# Altium footprint library 0878321220.PcbLib: 1 footprints
Each footprint in its own frame and in the unit in brackets; x right, y up, seen from the top. Pads: shape width x height; smd on the part's side, far side on the other; paste and mask are expansions set on the pad; w line width, h text height; cw(c..) or ccw(c..) is an arc to the next point about the centre after c.
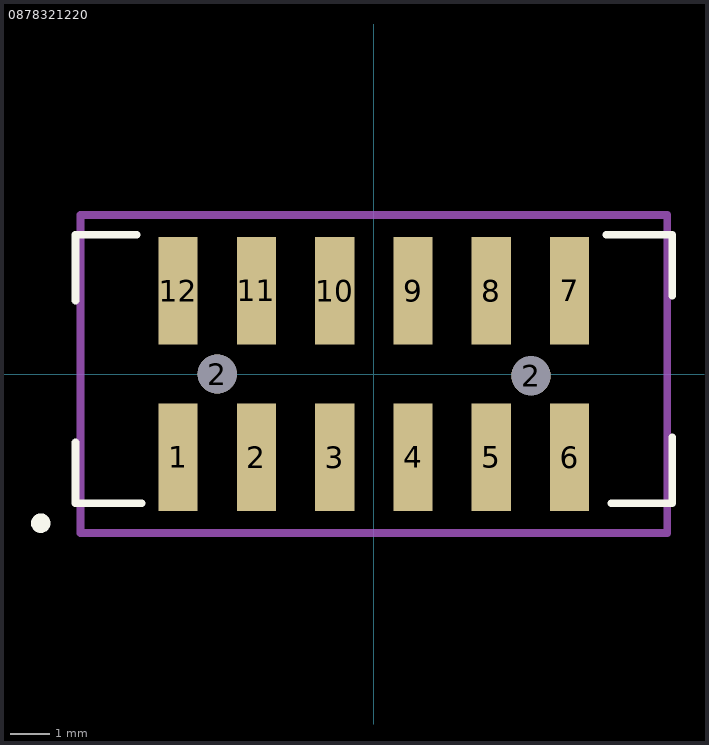
[diagram p0: the footprint, top view; thin cyan lines are the x and y axes]

## 0878321220 [mm]
pads (14):
  rect 1x2.75 smd paste+0 mask+0: 1(-5,-2.13) 2(-3,-2.13) 3(-1,-2.13) 4(1,-2.13) 5(3,-2.13) 6(5,-2.13) 7(5,2.13) 8(3,2.13) 9(1,2.13) 10(-1,2.13) 11(-3,2.13) 12(-5,2.13)
  round 1 hole 1 mask+0: 2(-4,0) 2(4.016,-0.046)
Top Overlay:
  circle w0.25: c-8.509,-3.81 r0.125
  lines w0.2: -7.62,-1.748 -7.62,-3.302 -5.938,-3.302 ; -7.62,1.874 -7.62,3.556 -6.066,3.556 ; 5.938,3.556 7.62,3.556 7.62,2.002 ; 6.066,-3.302 7.62,-3.302 7.62,-1.62
Top Assembly:
  text ".Designator" at 0,-1.123 h1
Top Courtyard:
  lines w0.2: -7.493,-4.064 -7.493,4.064 7.493,4.064 7.493,-4.064 -7.493,-4.064
3D body "878321220.stp": height 7.6, standoff -1, extent -7.325,-3.023 7.325,3.277